# EAGLE library part SCHD3A0100 (library Magister-Libraries)
microSD card socket
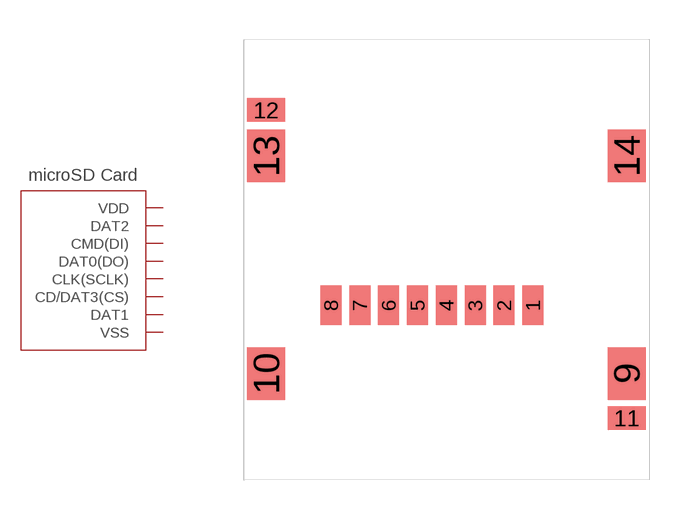
[diagram p6: symbol with the pads of SCHD3A0100; footprint SCHD3A0100]

Designator prefix -

## SCHD3A0100  [SCHD3A0100]
1  DAT2
2  CD/DAT3(CS)
3  CMD(DI)
4  VDD
5  CLK(SCLK)
6  VSS
7  DAT0(DO)
8  DAT1
11  VSS
12  VSS

## Footprint SCHD3A0100 (pad centres in mm)
smd 0.8 x 1.5: 1 10.9,-10.15; 2 9.8,-10.15; 3 8.7,-10.15; 4 7.6,-10.15; 5 6.5,-10.15; 6 5.4,-10.15; 7 4.3,-10.15; 8 3.2,-10.15
smd 1.45 x 2: 9 14.475,-12.75; 10 0.725,-12.75; 13 0.725,-4.45; 14 14.475,-4.45
smd 1.45 x 0.9: 11 14.475,-14.45; 12 0.725,-2.7